# EAGLE library part AD8337 (library ICs)
General-Purpose, Low Cost, DC-Coupled VGA
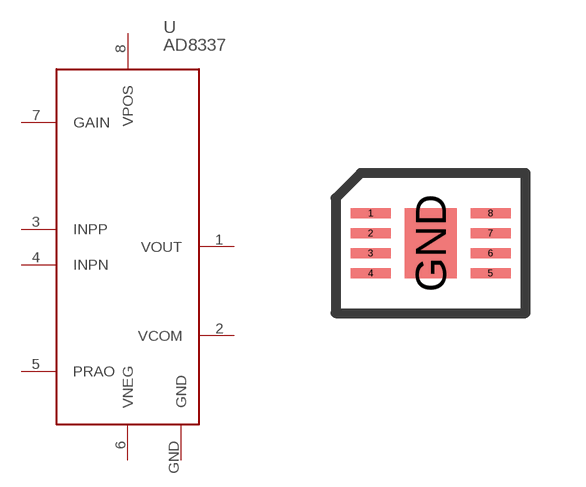
[diagram p63: symbol with the pads of LFCSP8; footprint LFCSP8]

Designator prefix U

## AD8337BCPZ (FARNELL: 1498695; PRICE_PER: 4.23; VALUE: AD8337)  [LFCSP8]
1  VOUT
2  VCOM
3  INPP
4  INPN
5  PRAO
6  VNEG
7  GAIN
8  VPOS
GND  GND

## Footprint LFCSP8 (pad centres in mm)
smd 1 x 0.25: 1 -1.5,0.75; 2 -1.5,0.25; 3 -1.5,-0.25; 4 -1.5,-0.75; 5 1.5,-0.75; 6 1.5,-0.25; 7 1.5,0.25; 8 1.5,0.75
smd 1.3 x 1.75: GND 0,0